# EAGLE library part JAMMAFPGA_LM4755 (library goJAMMAv02)
LM4755 AUDIO AMP
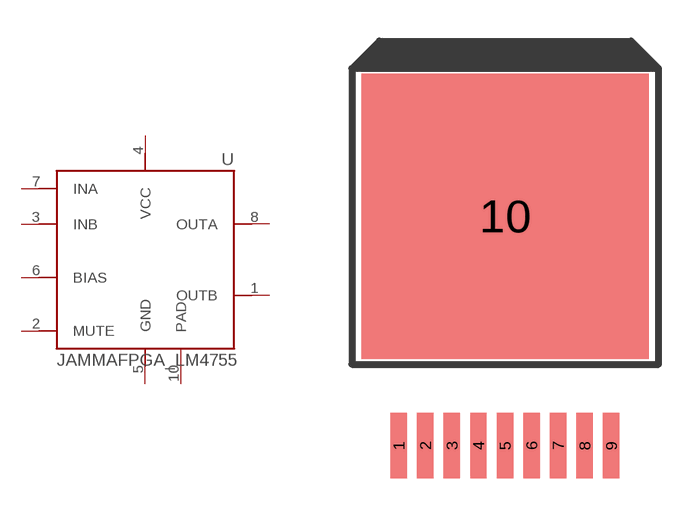
[diagram p15: symbol with the pads of JAMMAFPGA_DDPAK-9; footprint JAMMAFPGA_DDPAK-9]

Designator prefix -

## JAMMAFPGA_LM4755  [JAMMAFPGA_DDPAK-9]
1  OUTB  out
2  MUTE  in
3  INB  in
4  VCC  pwr
5  GND  pwr
6  BIAS  in
7  INA  in
8  OUTA  out
10  PAD  pwr

## Footprint JAMMAFPGA_DDPAK-9 (pad centres in mm)
smd 0.6 x 2.4: 1 -3.89,0.03; 2 -2.92,0.03; 3 -1.95,0.03; 4 -0.98,0.03; 5 -0.01,0.03; 6 0.96,0.03; 7 1.93,0.03; 8 2.9,0.03; 9 3.87,0.03
smd 10.48 x 10.42: 10 0,8.4